# Altium footprint library MIC29300.PcbLib: 1 footprints
Each footprint in its own frame and in the unit in brackets; x right, y up, seen from the top. Pads: shape width x height; smd on the part's side, far side on the other; paste and mask are expansions set on the pad; w line width, h text height; cw(c..) or ccw(c..) is an arc to the next point about the centre after c.
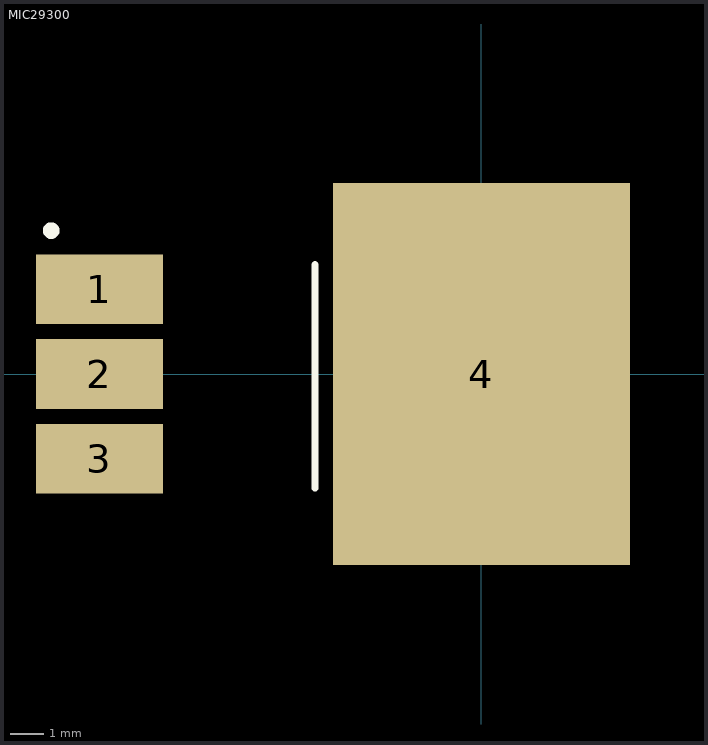
[diagram p0: the footprint, top view; thin cyan lines are the x and y axes]

## MIC29300 [mil]
pads (4):
  rect 150x82 smd: 1(-450,100) 2(-450,0) 3(-450,-100)
  rect 350x450 smd: 4(0,0)
Top Overlay:
  circle w9.84: c-506.92,169 r4.92
  lines w7.87: -196,-134.78 -196,129
Mechanical 15:
  lines w3.94: -19.68,0 19.69,0 ; 0,-19.68 0,19.69
3D body: height 190.3, standoff 1.33, extent -476.45,-196.85 140.48,196.85